# EAGLE library part DG413-J (library joakim)
Quad switch, half normally closed/half normally open. May be used as SPDT or DPDT
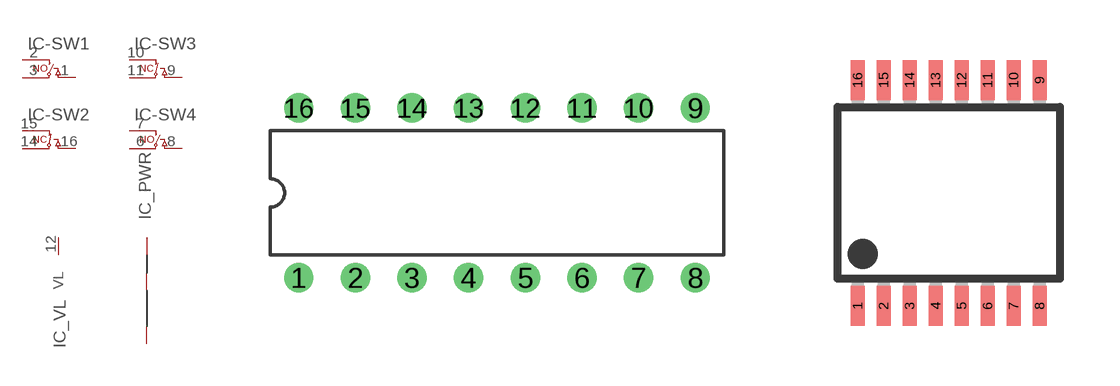
[diagram p62: symbol with the pads of DIL16J; footprints DIL16J, TSSOP16J]

Designator prefix IC; gates -SW2=DG-CELL-NC -SW3=DG-CELL-NC _VL=VL-PWR _PWR=XM8-PWR -SW1=DG-CELL-NO -SW4=DG-CELL-NO

## DG413-J  [DIL16J]
1  -SW1:C
2  -SW1:D
3  -SW1:S
4  _PWR:-15V  pwr
5  _PWR:AGND  pwr
6  -SW4:S
7  -SW4:D
8  -SW4:C
9  -SW3:C
10  -SW3:D
11  -SW3:S
12  _VL:VL
13  _PWR:+15V  pwr
14  -SW2:S
15  -SW2:D
16  -SW2:C

## DG413-JT  [TSSOP16J]
Pads as for DIL16J

## Footprint DIL16J (pad centres in mm)
Dual In Line 16
drill 0.813: 1 -8.89,-3.81; 2 -6.35,-3.81; 3 -3.81,-3.81; 4 -1.27,-3.81; 5 1.27,-3.81; 6 3.81,-3.81; 7 6.35,-3.81; 8 8.89,-3.81; 9 8.89,3.81; 10 6.35,3.81; 11 3.81,3.81; 12 1.27,3.81; 13 -1.27,3.81; 14 -3.81,3.81; 15 -6.35,3.81; 16 -8.89,3.81

## Footprint TSSOP16J (pad centres in mm)
16-Lead Plastic Thin Shrink Small Outline (ST) - 4.4 mm Body TSSOP Source: http://ww1.microchip.com/downloads/en/DeviceDoc/40039E.pdf
smd 0.35 x 1: 1 -2.268,-2.825; 2 -1.617,-2.825; 3 -0.968,-2.825; 4 -0.318,-2.825; 5 0.333,-2.825; 6 0.983,-2.825; 7 1.633,-2.825; 8 2.283,-2.825; 9 2.283,2.825; 10 1.633,2.825; 11 0.983,2.825; 12 0.333,2.825; 13 -0.318,2.825; 14 -0.968,2.825; 15 -1.617,2.825; 16 -2.268,2.825